# EAGLE library part 01STANDARD_RM4_THT_6PIN (library Wurth Electronics Midcom Inc V1-0)
Package Style: Standard RM4_THT_6PIN Mounting: THT Pins: 6 pins Bobbin: 070-5754 Best pinouts for production vary per application. Please contact Wurth Electronics Midcom, Inc. for assistance with your custom design. Website: Wurth Electronics Midcom <http://www.we-online.com/midcom> Contact us Wurth Electronics Midcom, Inc. 121 Airport Dr. Watertown, SD 57201 Phone: (605) 886-4385 Fax: (605) 886-4486 E-Mail: midcom@we-online.com
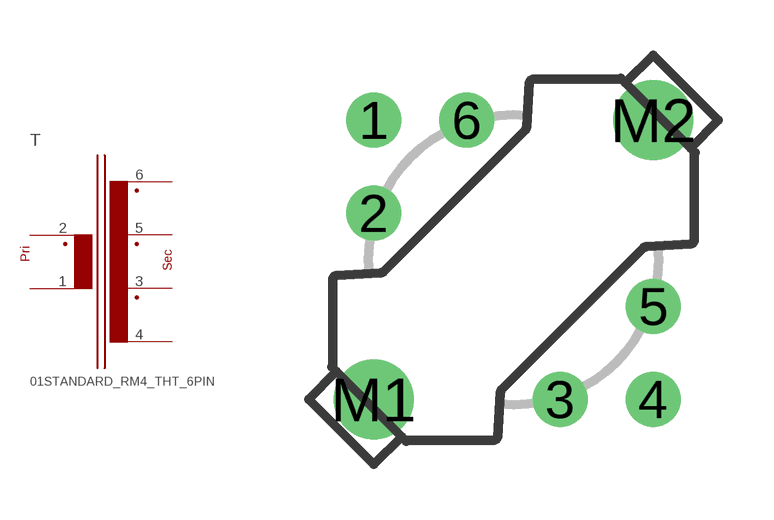
[diagram p153: symbol with the pads of 01STANDARD_RM4_THT_6PIN; footprint 01STANDARD_RM4_THT_6PIN]

Designator prefix T

## 01STANDARD_RM4_THT_6PIN  [01STANDARD_RM4_THT_6PIN]
1  2  pas
2  1  pas
3  5  pas
4  6  pas
5  4  pas
6  3  pas

## Footprint 01STANDARD_RM4_THT_6PIN (pad centres in mm)
Package Style: Speedy RM4_THT_6PIN Mounting: THT Pins: 6 pins Bobbin: 070-5754
drill 0.991 round: 1 -3.81,3.81; 2 -3.81,1.27; 3 1.27,-3.81; 4 3.81,-3.81; 5 3.81,-1.27; 6 -1.27,3.81
drill 1.448 round: M1 -3.81,-3.81; M2 3.81,3.81